# EAGLE library part MODSTRING (library con-tyco-micro-mate-n-lok)
Connector to String Molex Mini-Fit Jr. 2 x 3 = 6 pin
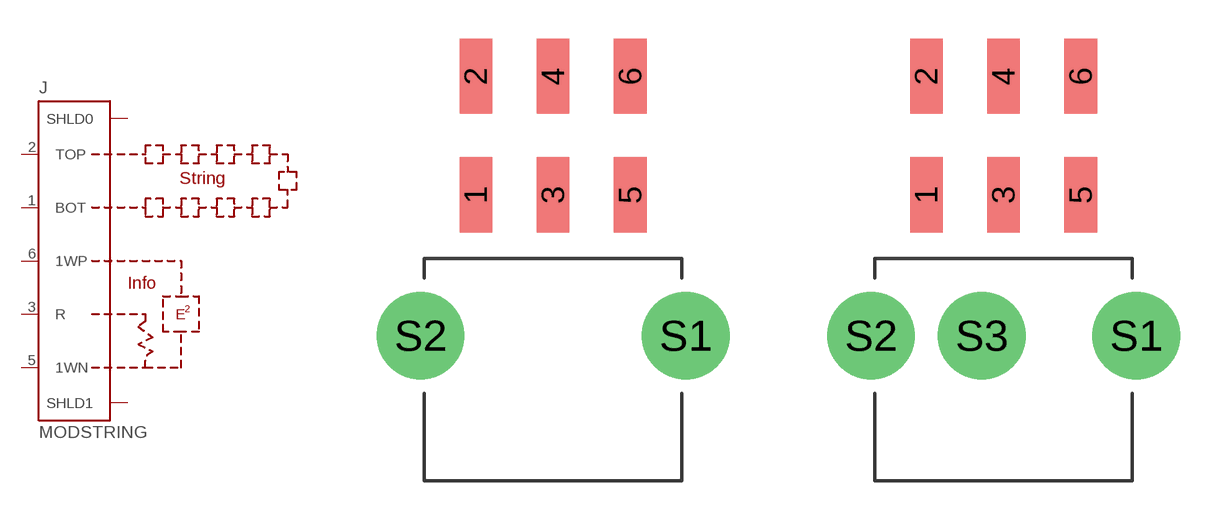
[diagram p1: symbol with the pads of 3-794626-6; footprints 3-794626-6, 2/4PINDUAL]

Designator prefix J

## MODSTRING  [3-794626-6]
1  BOT  pas
2  TOP  pas
3  R  pas
5  1WN  pas
6  1WP  pas
S1  SHLD0  pwr
S2  SHLD1  pwr

## MODSTRINGMODSTRINGDUAL (DIGIKEY: WM10694CT-ND)  [2/4PINDUAL]
1  BOT  pas
2  TOP  pas
3  R  pas
5  1WN  pas
6  1WP  pas
S1  SHLD0  pwr
S2  SHLD0  pwr
S3  SHLD1  pwr

## Footprint 3-794626-6 (pad centres in mm)
MALE CONNECTOR Micro MATE-N-LOK
smd 1.27 x 2.92: 1 -3,5.48; 2 -3,10.1; 3 0,5.48; 4 0,10.1; 5 3,5.48; 6 3,10.1
drill 2.4: S1 5.15,0; S2 -5.15,0

## Footprint 2/4PINDUAL (pad centres in mm)
smd 1.27 x 2.92: 1 -3,5.48; 2 -3,10.1; 3 0,5.48; 4 0,10.1; 5 3,5.48; 6 3,10.1
drill 2.4: S1 5.15,0; S2 -5.15,0; S3 -0.85,0